# Altium footprint library 1PMT4135E3_TR7.PcbLib: 1 footprints
Each footprint in its own frame and in the unit in brackets; x right, y up, seen from the top. Pads: shape width x height; smd on the part's side, far side on the other; paste and mask are expansions set on the pad; w line width, h text height; cw(c..) or ccw(c..) is an arc to the next point about the centre after c.
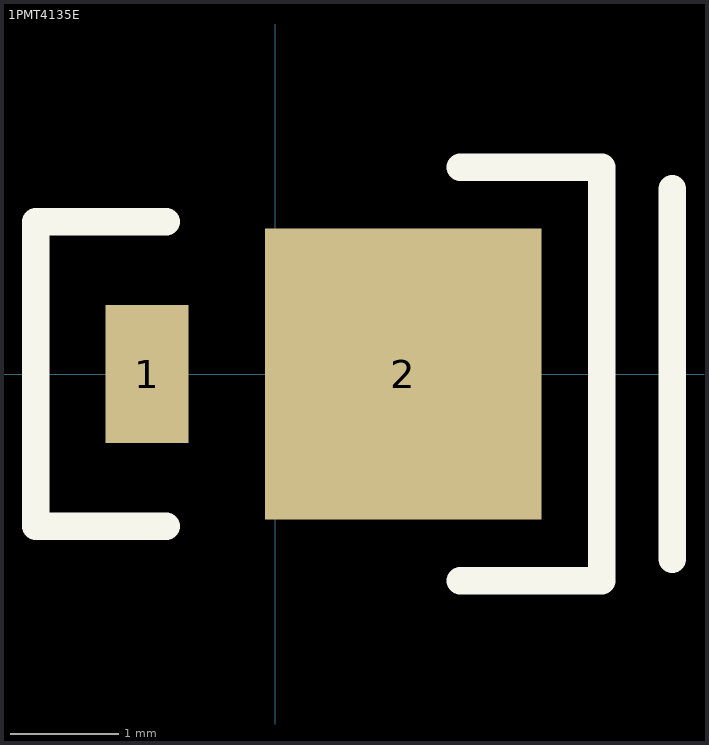
[diagram p0: the footprint, top view; thin cyan lines are the x and y axes]

## 1PMT4135E [mm] "Diod's footpring"
pads (2):
  rect 0.76x1.27 smd: 1(-1.177,0)
  rect 2.54x2.67 smd: 2(1.178,0)
Top Overlay:
  lines w0.254: -1,-1.4 -2.2,-1.4 -2.2,1.4 -1,1.4 ; 1.7,-1.9 3,-1.9 3,1.9 1.7,1.9 ; 3.648,-1.7 3.648,1.7
3D body "1PMT4135E3.step": height 1.02, standoff 0, extent -1.475,-0.955 2.285,0.955
3D body: height 0.95, standoff -0.95, extent -0.381,-0.127 -0.381,-0.127